# Altium footprint library Semiconductors.PcbLib: 17 footprints (part 1 of 2)
Each footprint in its own frame and in the unit in brackets; x right, y up, seen from the top. Pads: shape width x height; smd on the part's side, far side on the other; paste and mask are expansions set on the pad; w line width, h text height; cw(c..) or ccw(c..) is an arc to the next point about the centre after c.
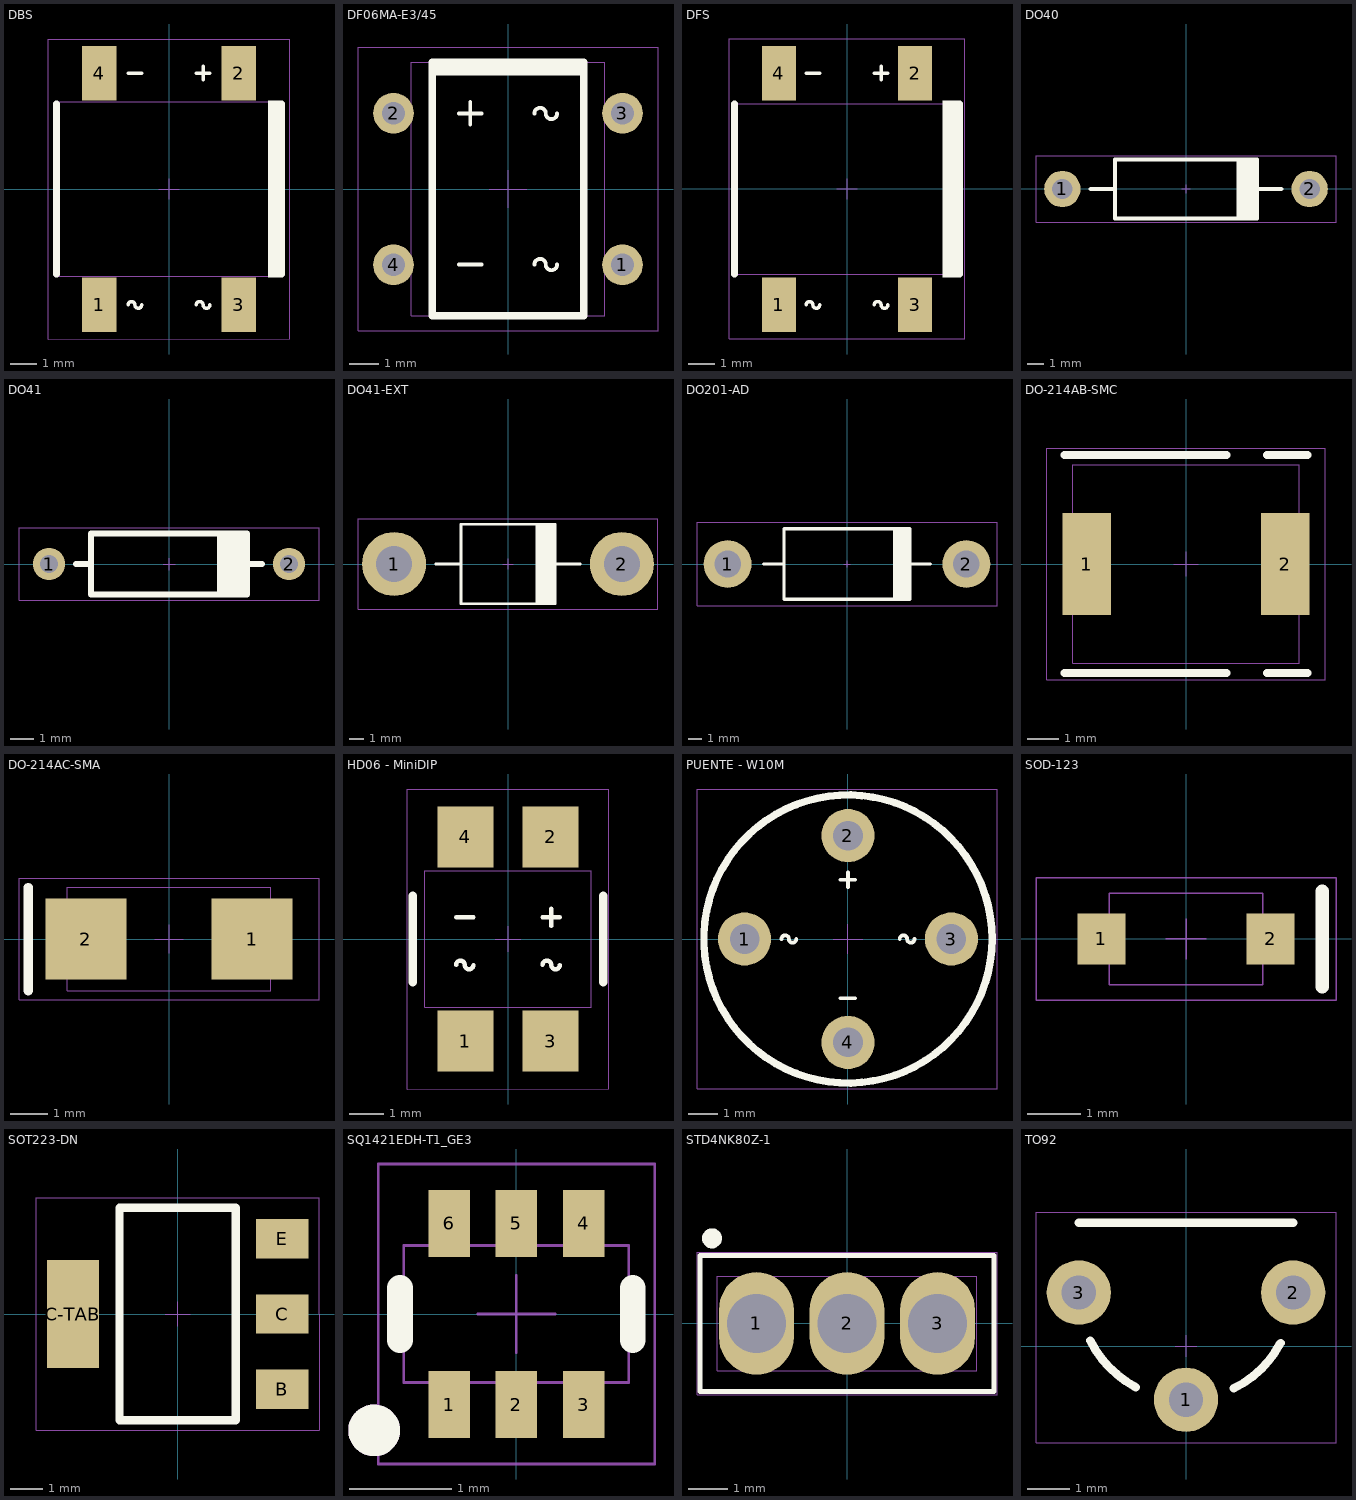
[diagram p0: the footprints below, top view; thin cyan lines are the x and y axes]

## DBS [mil]
pads (4):
  rect 50x80 smd: 1(-102.36,-170) 2(102.36,170) 3(102.36,-170) 4(-102.36,170)
Top Overlay:
  rectangle: 145,-130 165,130
  lines w5: -60,-170 cw(c-55,-170) -50,-170 ccw(c-45,-170) -40,-170 ; -60,170 -40,170 ; 40,-170 cw(c45,-170) 50,-170 ccw(c55,-170) 60,-170 ; 40,170 60,170 ; 50,160 50,180
  lines w10: -165,-125 -165,125 ; 165,-125 165,125
Top Courtyard (Mech4):
  lines w1: -177.32,-220 -177.32,220 177.32,220 177.32,-220 -177.32,-220
Top Assembly:
  lines w1: -15,0 15,0 ; 0,-15 0,15 ; -167.32,-127.95 -167.32,127.95 167.32,127.95 167.32,-127.95 -167.32,-127.95
3D body "DB107S--3DModel-STEP-56544.STEP": height 106.3, standoff 0, extent -160.43,-194.88 160.43,194.88

## DF06MA-E3/45 [mil]
pads (4):
  round 54 hole 30: 1(151.57,-100.39) 2(-151.57,100.39) 3(151.57,100.39) 4(-151.57,-100.39)
Top Overlay:
  rectangle: -100,150 100,167.52
  lines w5: -65,-100 -35,-100 ; -65,100 -35,100 ; -50,85 -50,115 ; 35,-100 cw(c42.5,-100) 50,-100 ccw(c57.5,-100) 65,-100 ; 35,100 cw(c42.5,100) 50,100 ccw(c57.5,100) 65,100
  lines w10: -100,-167.52 -100,167.52 100,167.52 100,-167.52 -100,-167.52
Top Courtyard (Mech4):
  lines w1: -198.57,-187.52 198.57,-187.52 198.57,187.52 -198.57,187.52 -198.57,-187.52
Top Assembly:
  lines w1: -25,0 25,0 ; 0,-25 0,25 ; -127.95,-167.52 -127.95,167.52 127.95,167.52 127.95,-167.52 -127.95,-167.52
3D body "45.STEP": height 209.84, standoff -104.72, extent -162.39,-163.68 162.39,163.68

## DFS [mil]
pads (4):
  rect 50x80 smd: 1(-100,-170) 2(100,170) 3(100,-170) 4(-100,170)
Top Overlay:
  rectangle: 140,-130 165,130
  lines w5: -60,-170 cw(c-55,-170) -50,-170 ccw(c-45,-170) -40,-170 ; -60,170 -40,170 ; 40,-170 cw(c45,-170) 50,-170 ccw(c55,-170) 60,-170 ; 40,170 60,170 ; 50,160 50,180
  lines w10: -165,-125 -165,125 ; 165,-125 165,125
Top Courtyard (Mech4):
  lines w1: -172.99,-220 172.99,-220 172.99,220 -172.99,220 -172.99,-220
Top Assembly:
  lines w1: -15,0 15,0 ; 0,-15 0,15 ; -165,-125 -165,125 165,125 165,-125 -165,-125
3D body "SO4_DFS_VIS.step": height 115.12, standoff 0, extent -162.99,-202.99 162.99,202.99

## DO40 [mil]
pads (2):
  round 90 hole 50: 1(-305,0) 2(305,0)
Top Overlay:
  rectangle: 125,-72.5 175,72.5
  lines w10: -235,0 -175,0 ; 175,0 235,0 ; -175,-72.5 -175,72.5 175,72.5 175,-72.5 -175,-72.5
Top Courtyard (Mech4):
  lines w1: -370,-82.5 370,-82.5 370,82.5 -370,82.5 -370,-82.5
Top Assembly:
  lines w1: -10,0 10,0 ; 0,-10 0,10
3D body "1N5349BG.STEP": height 145, standoff -1100, extent -324,-72.5 324,72.5

## DO41 [mil]
pads (2):
  round 54 hole 30: 1(-200,0) 2(200,0)
Top Overlay:
  rectangle: 80,-50.5 130,50.5
  lines w10: -155,0 -130,0 ; 130,0 155,0 ; -130,-50.5 -130,50.5 130,50.5 130,-50.5 -130,-50.5
Top Courtyard (Mech4):
  lines w1: -250,-60.5 -250,60.5 250,60.5 250,-60.5 -250,-60.5
Top Assembly:
  lines w1: -10,0 10,0 ; 0,-10 0,10
3D body "DO41.step": height 80, standoff -120.5, extent -215,-50.5 215,50.5

## DO41-EXT [mm]
pads (2):
  round 4.5 hole 2.54: 1(-8.001,0) 2(8.001,0)
Top Overlay:
  rectangle: 2.032,-2.794 3.302,2.794
  lines w0.2: -5.08,0 -3.302,0 ; 2.032,-2.794 2.032,2.794 ; 3.302,0 5.08,0 ; -3.302,-2.794 -3.302,2.794 3.302,2.794 3.302,-2.794 -3.302,-2.794
Top Courtyard (Mech4):
  lines w0.025: -10.541,-3.175 10.541,-3.175 10.541,3.175 -10.541,3.175 -10.541,-3.175
Top Assembly:
  lines w0.025: -0.381,0 0.381,0 ; 0,-0.381 0,0.381
3D body "MUR410G.STEP": height 5.6, standoff -14.67, extent -8.435,-2.788 8.435,2.788

## DO201-AD [mm]
pads (2):
  round 3.6 hole 2: 1(-9,0) 2(9,0)
Top Overlay:
  rectangle: 3.48,-2.65 4.75,2.65
  lines w0.254: -6.274,0 -4.75,0 ; 4.75,0 6.274,0 ; -4.75,-2.65 -4.75,2.65 4.75,2.65 4.75,-2.65 -4.75,-2.65
Top Courtyard (Mech4):
  lines w0.025: -11.308,-3.158 -11.308,3.158 11.308,3.158 11.308,-3.158 -11.308,-3.158
Top Assembly:
  lines w0.025: -0.254,0 0.254,0 ; 0,-0.254 0,0.254

## DO-214AB-SMC [mil]
pads (2):
  rect 60x126 smd: 1(-122.5,0) 2(122.5,0)
Top Overlay:
  lines w10: -150,-135 50,-135 ; -150,135 50,135 ; 100,-135 150,-135 ; 100,135 150,135
Top Courtyard (Mech4):
  lines w1: -172.5,-143 172.5,-143 172.5,143 -172.5,143 -172.5,-143
Top Assembly:
  lines w1: -15,0 15,0 ; 0,-15 0,15 ; -140,-123 -140,123 140,123 140,-123 -140,-123
3D body "SMC Package.step": height 63.06, standoff -26.07, extent -155.41,-116.14 155.56,116.14

## DO-214AC-SMA [mm]
pads (2):
  rect 2.2x2.2 smd: 1(2.25,0) 2(-2.25,0)
Top Overlay:
  lines w0.254: -3.81,-1.397 -3.81,1.397
Top Courtyard (Mech4):
  lines w0.025: -4.064,-1.651 -4.064,1.651 4.064,1.651 4.064,-1.651 -4.064,-1.651
Top Assembly:
  lines w0.025: -0.381,0 0.381,0 ; 0,-0.381 0,0.381 ; -2.75,-1.4 -2.75,1.4 2.75,1.4 2.75,-1.4 -2.75,-1.4
3D body "BZG03B110-M3-08.STEP": height 2.3, standoff 0.01, extent -2.553,-1.333 2.553,1.333

## HD06 - MiniDIP [mm]
pads (4):
  rect 1.65x1.8 smd: 1(-1.25,-3) 2(1.25,3) 3(1.25,-3) 4(-1.25,3)
Top Overlay:
  lines w0.127: -1.524,-0.762 cw(c-1.397,-0.762) -1.27,-0.762 ccw(c-1.143,-0.762) -1.016,-0.762 ; -1.524,0.635 -1.016,0.635 ; 1.016,-0.762 cw(c1.143,-0.762) 1.27,-0.762 ccw(c1.397,-0.762) 1.524,-0.762 ; 1.016,0.635 1.524,0.635 ; 1.27,0.381 1.27,0.889
  lines w0.254: -2.794,-1.27 -2.794,1.27 ; 2.794,-1.27 2.794,1.27
Top Courtyard (Mech4):
  lines w0.025: -2.958,-4.408 2.958,-4.408 2.958,4.408 -2.958,4.408 -2.958,-4.408
Top Assembly:
  lines w0.025: -0.381,0 0.381,0 ; 0,-0.381 0,0.381 ; -2.45,-2 -2.45,2 2.45,2 2.45,-2 -2.45,-2
3D body "HD06-T--3DModel-STEP-510211.STEP": height 3, standoff 0, extent -2.35,-3.4 2.35,3.4

## PUENTE - W10M [mil]
pads (4):
  round 72 hole 40: 1(-140,0) 2(0,140) 3(140,0) 4(0,-140)
Top Overlay:
  circle w10: c0,0 r195
  lines w5: -90,0 cw(c-85,0) -85,5 cw(c-85,0) -80,0 ccw(c-75,0) -75,-5 ccw(c-75,0) -70,0 ; -10,-80 10,-80 ; -10,80 10,80 ; 0,70 0,90 ; 70,0 cw(c75,0) 75,5 cw(c75,0) 80,0 ccw(c85,0) 85,-5 ccw(c85,0) 90,0
Top Courtyard (Mech4):
  lines w1: -204.33,-202.87 -204.33,202.87 201.66,202.87 201.66,-202.87 -204.33,-202.87
Top Assembly:
  lines w1: -20,0 20,0 ; 0,-20 0,20
3D body "DIO_WOBM_MTC.step": height 180.98, standoff -150, extent -194.33,-192.87 191.66,192.87

## SOD-123 [mm]
pads (2):
  rect 0.9x0.95 smd: 1(-1.575,0) 2(1.575,0)
Top Overlay:
  lines w0.254: 2.54,-0.889 2.54,0.889
Top Courtyard (Mech4):
  lines w0.025: -2.794,-1.143 2.794,-1.143 2.794,1.143 -2.794,1.143 -2.794,-1.143
Top Assembly:
  lines w0.025: -0.381,0 0.381,0 ; 0,-0.381 0,0.381 ; -1.425,-0.85 -1.425,0.85 1.425,0.85 1.425,-0.85 -1.425,-0.85
3D body "1N4148W-13-F.STEP": height 1.46, standoff 0.01, extent -1.825,-0.775 1.825,0.775

## SOT223-DN [mm]
pads (4):
  rect 1.6x1.2 smd: B(3.2,-2.3) C(3.2,0) E(3.2,2.3)
  rect 1.6x3.3 smd: C-TAB(-3.2,0)
Top Overlay:
  lines w0.254: -1.778,-3.25 -1.778,3.25 1.778,3.25 1.778,-3.25 -1.778,-3.25
Top Courtyard (Mech4):
  lines w0.025: -4.318,-3.556 -4.318,3.556 4.318,3.556 4.318,-3.556 -4.318,-3.556
Top Assembly:
  lines w0.025: -0.381,0 0.381,0 ; 0,-0.381 0,0.381 ; -1.778,-3.25 -1.778,3.25 1.778,3.25 1.778,-3.25 -1.778,-3.25
3D body "FZT953.STEP": height 1.65, standoff 0, extent -3.5,-3.25 3.5,3.25

## SQ1421EDH-T1_GE3 [mil]
pads (6):
  rect 16x26 smd mask+5: 1(-26,-35) 2(0,-35) 3(26,-35) 4(26,35) 5(0,35) 6(-26,35)
Top Overlay:
  circle w10: c-55,-45 r5
  lines w10: -45,-10 -45,10 ; 45,-10 45,10
Top Courtyard (Mech4):
  lines w1: -53.5,-58 53.5,-58 53.5,58 -53.5,58 -53.5,-58
Top Assembly:
  circle w10: c-55,-45 r5
  lines w1: -15,0 15,0 ; 0,-15 0,15 ; -43.5,-26.5 -43.5,26.5 43.5,26.5 43.5,-26.5 -43.5,-26.5
3D body "MAX9180EXT+.STEP": height 43.31, standoff 0, extent -39.37,-41.34 39.37,41.34

## STD4NK80Z-1 [mm]
pads (3):
  oval 1.9x2.6 hole 1.5 mask+0.07: 1(-2.3,0) 2(0,0) 3(2.3,0)
Top Overlay:
  circle w0.254: c-3.429,2.159 r0.127
  lines w0.127: -3.734,-1.727 -3.734,1.727 3.734,1.727 3.734,-1.727 -3.734,-1.727
Top Courtyard (Mech4):
  lines w0.025: -3.808,-1.808 3.808,-1.808 3.808,1.808 -3.808,1.808 -3.808,-1.808
Top Assembly:
  lines w0.025: -0.254,0 0.254,0 ; 0,-0.254 0,0.254 ; -3.3,-1.2 3.3,-1.2 3.3,1.2 -3.3,1.2 -3.3,-1.2
3D body "2sj598-az.stp": height 8.3, standoff -5.4, extent -3.25,-1.551 3.25,0.75

## TO92 [mil]
pads (3):
  round 60 hole 32: 1(0,-50) 2(100,50) 3(-100,50)
Top Overlay:
  lines w7.87: -100,115 100,115 ; -89.44,5.28 ccw(c0,50) -47.06,-38.24 ; 44.72,-39.44 ccw(c0,50) 88.24,2.94
Top Courtyard (Mech4):
  lines w1: -140,-90 140,-90 140,125 -140,125 -140,-90
Top Assembly:
  lines w1: -10,0 10,0 ; 0,-10 0,10
3D body "User Library-TO-92D.step": height 314.96, standoff -118.98, extent -109.74,-60.85 109.74,110